# Altium footprint library DB-37.PcbLib: 1 footprints
Each footprint in its own frame and in the unit in brackets; x right, y up, seen from the top. Pads: shape width x height; smd on the part's side, far side on the other; paste and mask are expansions set on the pad; w line width, h text height; cw(c..) or ccw(c..) is an arc to the next point about the centre after c.
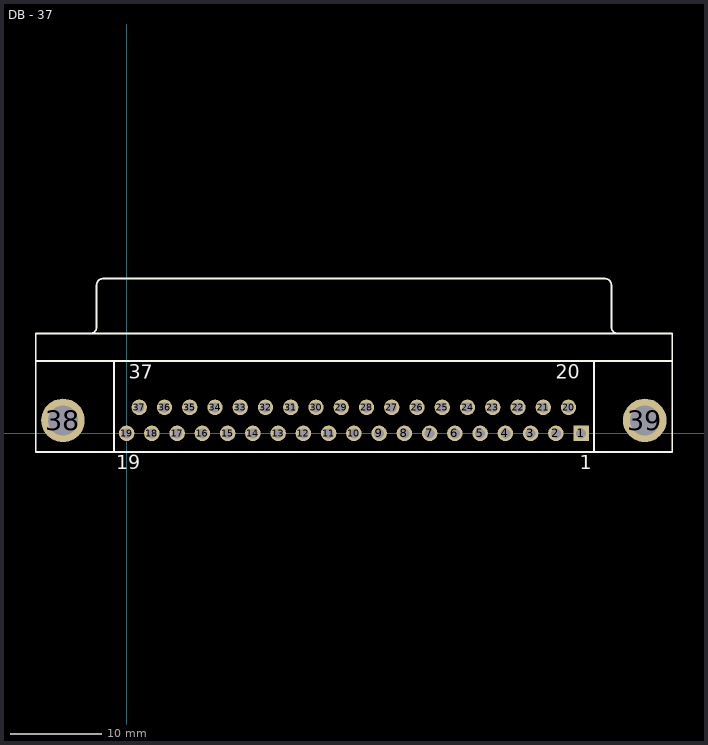
[diagram p0: the footprint, top view; thin cyan lines are the x and y axes]

## DB - 37 [mm]
pads (39):
  rect 1.69x1.69 hole 1.09: 1(49.693,0.002)
  round 1.69 hole 1.09: 2(46.932,0.002) 3(44.171,0.002) 4(41.41,0.002) 5(38.649,0.002) 6(35.888,0.002) 7(33.127,0.002) 8(30.366,0.002) 9(27.605,0.002) 10(24.844,0.002) 11(22.083,0.002) 12(19.322,0.002) 13(16.561,0.002) 14(13.8,0.002) 15(11.039,0.002) 16(8.278,0.002) 17(5.517,0.002) 18(2.756,0.002) 19(-0.005,0.002) 20(48.312,2.842) 21(45.551,2.842) 22(42.79,2.842) 23(40.029,2.842) 24(37.268,2.842) 25(34.507,2.842) 26(31.746,2.842) 27(28.985,2.842) 28(26.224,2.842) 29(23.463,2.842) 30(20.702,2.842) 31(17.941,2.842) 32(15.18,2.842) 33(12.419,2.842) 34(9.658,2.842) 35(6.897,2.842) 36(4.136,2.842) 37(1.375,2.842)
  round 4.76 hole 3.26: 38(-6.965,1.422) 39(56.653,1.422)
Top Overlay:
  lines w0.2: -9.935,7.922 59.627,7.922 ; -3.98,10.927 ccw(c-3.98,11.622) -3.285,11.622 -3.285,16.222 ; -3.28,16.227 cw(c-2.585,16.227) -2.585,16.922 52.299,16.922 cw(c52.299,16.227) 52.994,16.227 ; -1.385,-2.032 -1.385,7.922 ; 51.099,-2.032 51.099,7.922 ; 52.999,16.222 52.999,11.622 ccw(c53.694,11.622) 53.694,10.927 ; -9.935,-2.032 -9.935,10.922 59.649,10.922 59.649,-2.032 -9.935,-2.032
  text "20" at 46.915,5.947 h1.5
  text "37" at 0.25,5.947 h1.5
  text "1" at 49.53,-3.937 h1.5
  text "19" at -1.143,-3.937 h1.5
3D body "DBPN1M-37.step": height 12.55, standoff -4.82, extent -9.937,-2.032 59.563,17.142